# Altium integrated library SMACONNECTOR.IntLib: 1 symbol
Pins are listed as number, name and electrical type; pins without a type are passive.

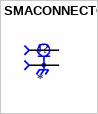
[diagram p0: symbol SMACONNECTOR]

## SMACONNECTOR
designator J?
SMA female RF coaxial connector for SMA male RF antennas.; MP: SMACONNECTOR; Package: None; Price: None; Value: *; Availability: Unavailable
footprint LPRS_SMACONNECTOR
pins: 1, 2, 3 2, 4 2, 5 2